# Altium footprint library Cornell_Dubilier_Aluminum_Electrolytics.PcbLib: 1 footprints
Each footprint in its own frame and in the unit in brackets; x right, y up, seen from the top. Pads: shape width x height; smd on the part's side, far side on the other; paste and mask are expansions set on the pad; w line width, h text height; cw(c..) or ccw(c..) is an arc to the next point about the centre after c.
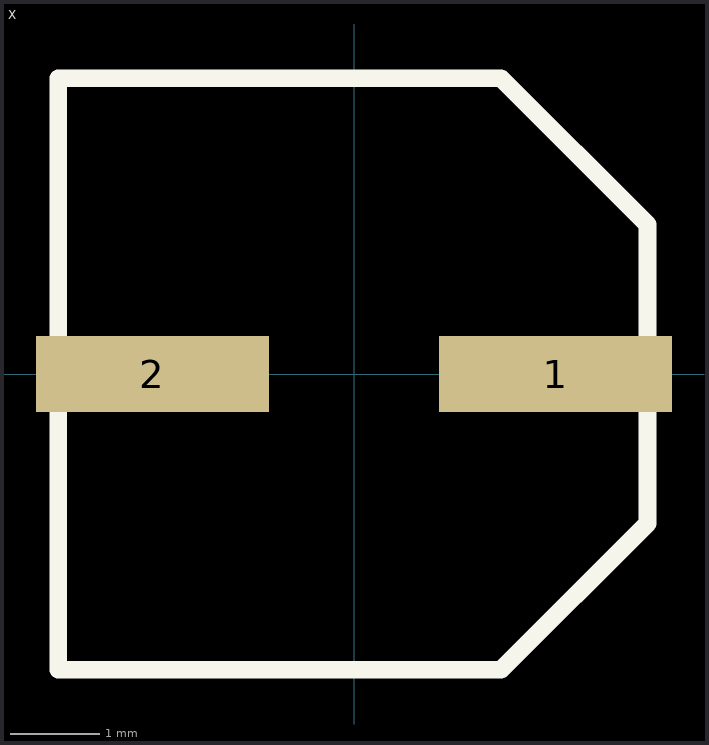
[diagram p0: the footprint, top view; thin cyan lines are the x and y axes]

## X [mm]
pads (2):
  rect 2.6x0.85 smd: 1(2.25,0) 2(-2.25,0)
Top Overlay:
  lines w0.2: -3.3,-3.3 -3.3,3.3 1.642,3.3 3.275,1.667 3.275,-1.667 1.642,-3.3 -3.3,-3.3